# EAGLE library part 3X24 (library Jordi)
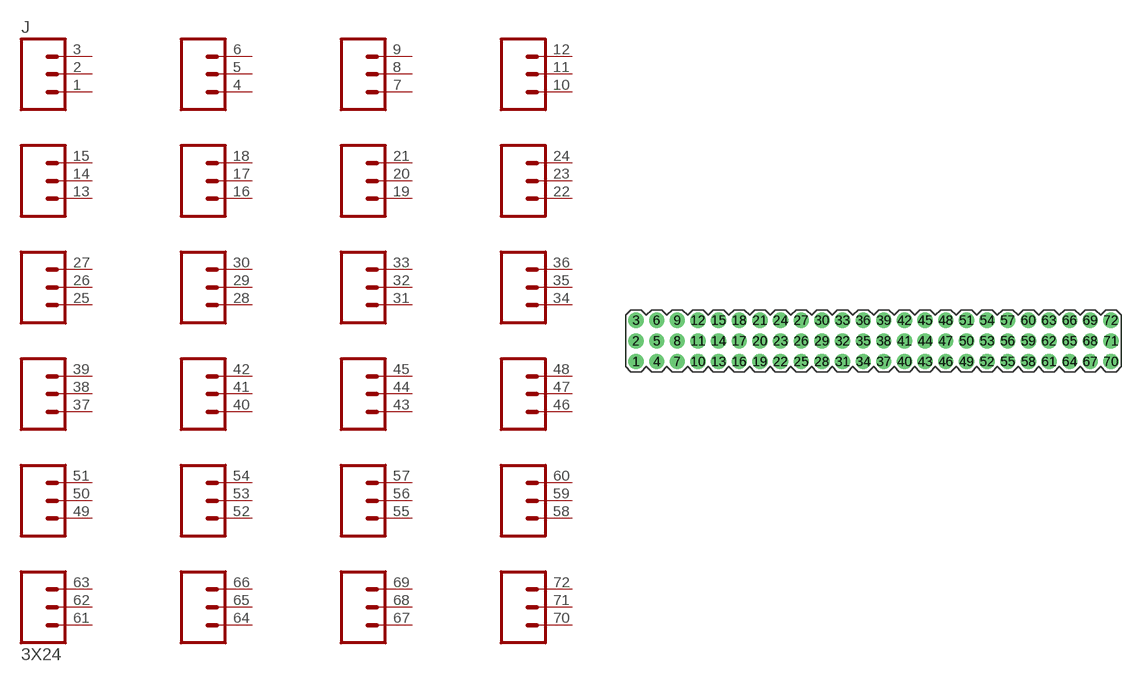
[diagram p11: symbol with the pads of M-3X24-0.1-PTH; footprint M-3X24-0.1-PTH]

Designator prefix J

## 3X24M-0.1-PTH  [M-3X24-0.1-PTH]
1  1  pas
2  2  pas
3  3  pas
4  4  pas
5  5  pas
6  6  pas
7  7  pas
8  8  pas
9  9  pas
10  10  pas
11  11  pas
12  12  pas
13  13  pas
14  14  pas
15  15  pas
16  16  pas
17  17  pas
18  18  pas
19  19  pas
20  20  pas
21  21  pas
22  22  pas
23  23  pas
24  24  pas
25  25  pas
26  26  pas
27  27  pas
28  28  pas
29  29  pas
30  30  pas
31  31  pas
32  32  pas
33  33  pas
34  34  pas
35  35  pas
36  36  pas
37  37  pas
38  38  pas
39  39  pas
40  40  pas
41  41  pas
42  42  pas
43  43  pas
44  44  pas
45  45  pas
46  46  pas
47  47  pas
48  48  pas
49  49  pas
50  50  pas
51  51  pas
52  52  pas
53  53  pas
54  54  pas
55  55  pas
56  56  pas
57  57  pas
58  58  pas
59  59  pas
60  60  pas
61  61  pas
62  62  pas
63  63  pas
64  64  pas
65  65  pas
66  66  pas
67  67  pas
68  68  pas
69  69  pas
70  70  pas
71  71  pas
72  72  pas

## Footprint M-3X24-0.1-PTH (pad centres in mm)
drill 1.016 pad 1.88: 1 -29.21,-2.54; 2 -29.21,0; 3 -29.21,2.54; 4 -26.67,-2.54; 5 -26.67,0; 6 -26.67,2.54; 7 -24.13,-2.54; 8 -24.13,0; 9 -24.13,2.54; 10 -21.59,-2.54; 11 -21.59,0; 12 -21.59,2.54; 13 -19.05,-2.54; 14 -19.05,0; 15 -19.05,2.54; 16 -16.51,-2.54; 17 -16.51,0; 18 -16.51,2.54; 19 -13.97,-2.54; 20 -13.97,0; 21 -13.97,2.54; 22 -11.43,-2.54; 23 -11.43,0; 24 -11.43,2.54; 25 -8.89,-2.54; 26 -8.89,0; 27 -8.89,2.54; 28 -6.35,-2.54; 29 -6.35,0; 30 -6.35,2.54; 31 -3.81,-2.54; 32 -3.81,0; 33 -3.81,2.54; 34 -1.27,-2.54; 35 -1.27,0; 36 -1.27,2.54; 37 1.27,-2.54; 38 1.27,0; 39 1.27,2.54; 40 3.81,-2.54; 41 3.81,0; 42 3.81,2.54; 43 6.35,-2.54; 44 6.35,0; 45 6.35,2.54; 46 8.89,-2.54; 47 8.89,0; 48 8.89,2.54; 49 11.43,-2.54; 50 11.43,0; 51 11.43,2.54; 52 13.97,-2.54; 53 13.97,0; 54 13.97,2.54; 55 16.51,-2.54; 56 16.51,0; 57 16.51,2.54; 58 19.05,-2.54; 59 19.05,0; 60 19.05,2.54; 61 21.59,-2.54; 62 21.59,0; 63 21.59,2.54; 64 24.13,-2.54; 65 24.13,0; 66 24.13,2.54; 67 26.67,-2.54; 68 26.67,0; 69 26.67,2.54; 70 29.21,-2.54; 71 29.21,0; 72 29.21,2.54